# Altium integrated library Linear Technology Power Management System Supervisor, Monitor and Control.IntLib: 1611 symbols (part 18 of 100)
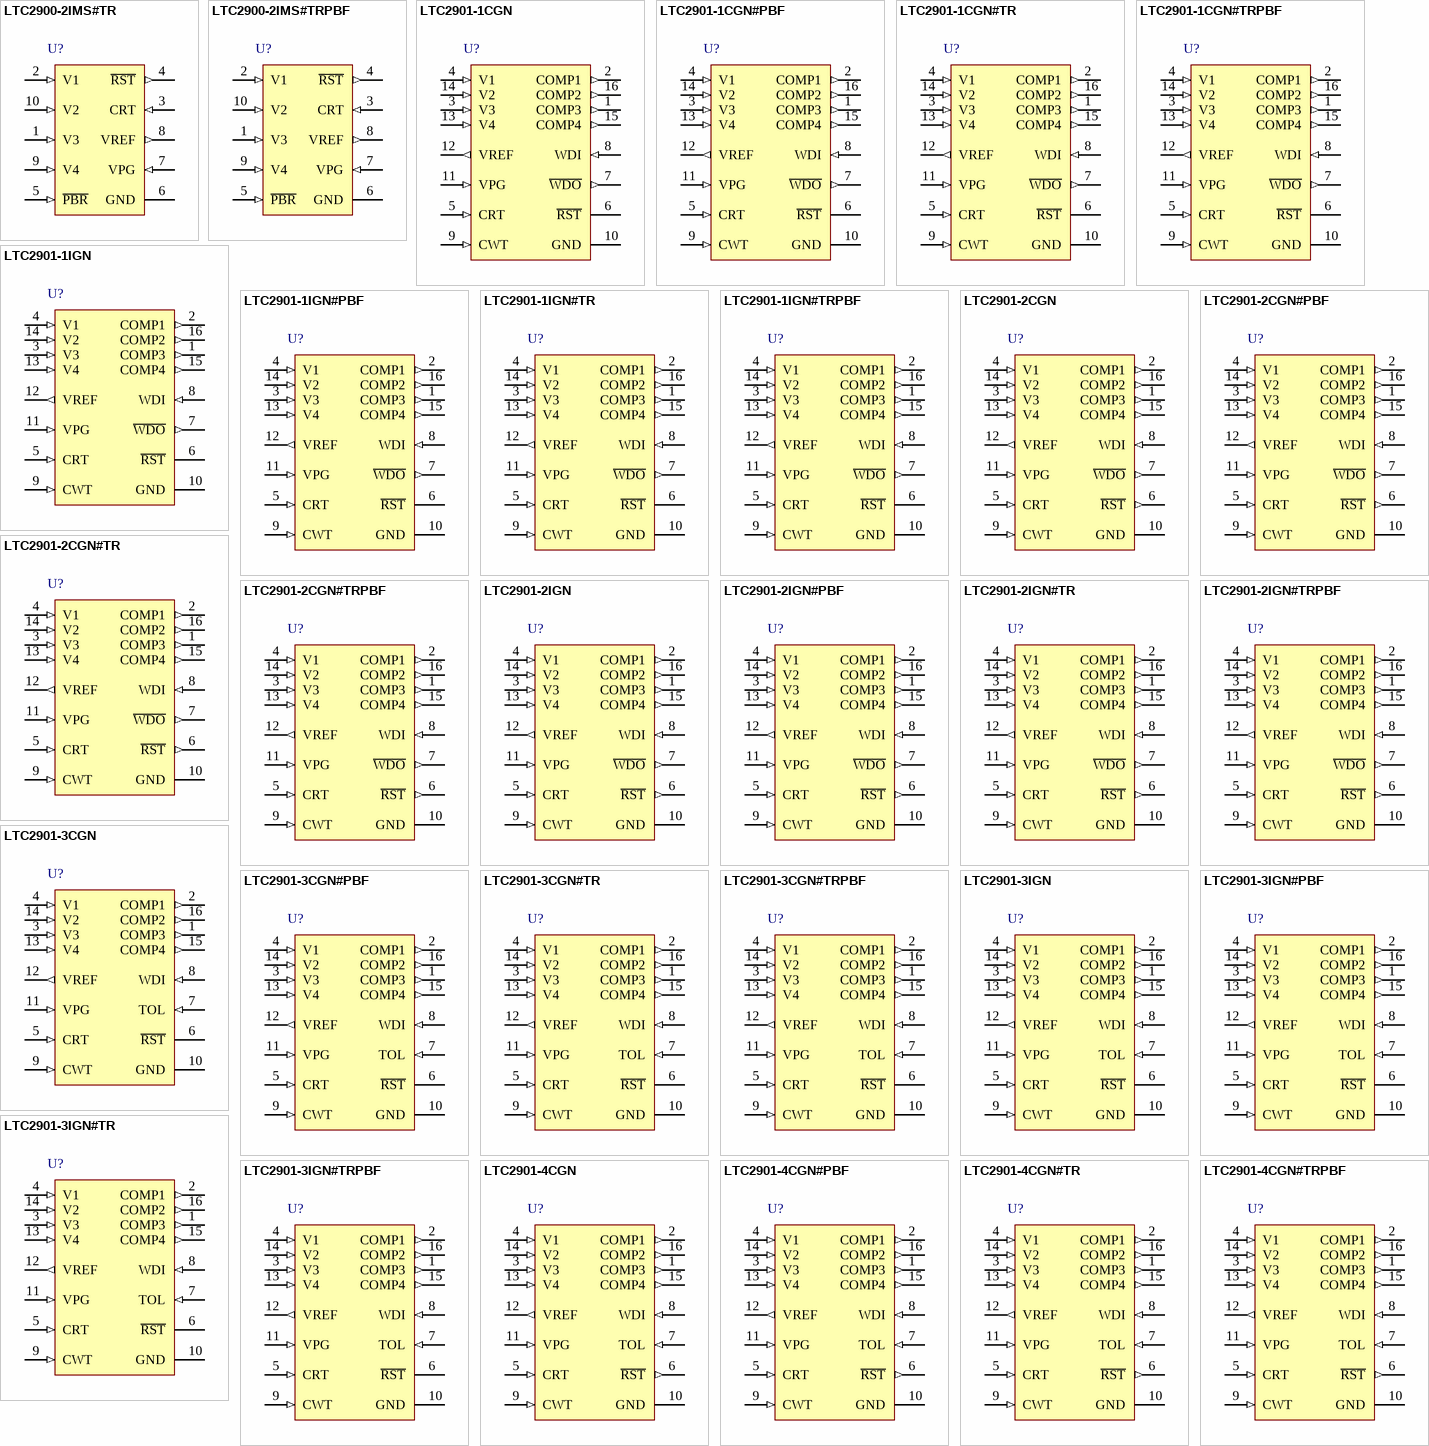
[diagram p62: symbols LTC2900-2IMS#TR to LTC2901-4CGN#TRPBF]

## LTC2901-2CGN#PBF
designator U?
Programmable Quad Supply Monitor with Adjustable Reset and Watchdog Timers, 16-pin SOP (GN-16), 0 to 70 degC, Pb-Free; Manufacturer: Linear Technology; PartNumber: LTC2901-2CGN#PBF; Number of Supplies(#): 4; DatasheetVersion: Rev. B; PackageVersion: Rev. B, 03/2012; PackageReference: GN-16; PackageDescription: 16-Pin Plastic SSOP, Body 4.9 x 3.9 mm, Pitch 0.635 mm; Supplier 1: Digi-Key; Supplier Part Number 1: LTC2901-2CGN#PBF-ND; RoHS: TRUE; Mounting Technology: Surface Mount; ComponentLink1Description: Manufacturer URL; ComponentLink1URL: http://www.linear.com/; ComponentLink2Description: Datasheet; ComponentLink2URL: http://cds.linear.com/docs/en/datasheet/2901fb.pdf; ComponentLink3Description: Package Specification; ComponentLink3URL: http://cds.linear.com/docs/en/packaging/05081641_B_GN16.pdf
footprint LT-GN-16_N (SOP, 16-Leads, Body 5x4mm, Pitch 0.635mm, IPC Medium Density)
footprint LT-GN-16_L (SOP, 16-Leads, Body 5x4mm, Pitch 0.635mm, IPC High Density)
footprint LT-GN-16_M (SOP, 16-Leads, Body 5x4mm, Pitch 0.635mm, IPC Low Density)
pins: 1 COMP3 (out) "Comparator Output 3. Nondelayed, active high logic output with weak pull-up to V2. Pulls high when V3 is above reset threshold. May be pulled greater than V2 using external pull-up.", 2 COMP1 (out) "Comparator Output 1. Nondelayed, active high logic output with weak pull-up to V2. Pulls high when V1 is above reset threshold. May be pulled greater than V2 using external pull-up.", 3 V3 (in) "Voltage Input 3. Select from 2.5V, 1.8V, 1.5V or ADJ. See Table 1 for details.", 4 V1 (in) "Voltage Input 1. Select from 5V or 3.3V. See Table 1 for details. The greater of (V1, V2) is also VCC for the device. Bypass this pin to ground with a 0.1uF (or greater) capacitor.", 5 CRT (in) "Reset Delay Time Programming Pin. Attach an external capacitor (CRT) to GND to set a reset delay time of 4.6ms/nF. Leaving the pin open generates a minimum delay of approximately 50us. A 47nF capacitor will generate a 216ms (See Datasheet)", 6 ~{RST} (out) "Reset Logic Output. Active low with weak pull-up to V2 (LTC2901-1/LTC2901-3) or active pull-up to V2 (LTC2901-2/LTC2901-4). Pulls low when any voltage input is below the reset threshold and held low for the programmed delay (See Datasheet)", 7 ~{WDO} (out) "LTC2901-1/LTC2901-2 Watchdog Output. Active low logic output with weak pull-up to V2. May be pulled greater than V2 using external pull-up. The watchdog output pulls low if the watchdog timer is allowed to time out and (See Datasheet)", 8 WDI (in) "Watchdog Input. A logic input whose rising or falling edge must occur on this pin (while R\S\T\ is high) within the selected watchdog time-out period, prohibiting a high-to-low transition on the W\D\O\ pin (LTC2901-1/ (See Datasheet)", 9 CWT (in) "Watchdog Time-Out Programming Pin. Attach a capacitor (CWT) between CWT and GND to set a watchdog time-out period of 20ms/nF. Leaving the pin open generates a minimum time-out of approximately 200us. A 47nF capacitor will (See Datasheet)", 10 GND (power) "Ground.", 11 VPG (in) "Voltage Threshold Combination Select Input. Connect to an external 1% resistive divider between VREF and GND to select 1 of 16 combinations of preset and/ or +/-adjustable voltage thresholds (see Table 1). Do not add (See Datasheet)", 12 VREF (out) "Buffered Reference Voltage. A 1.210V nominal reference used for programming voltage (VPG) and for the offset of negative adjustable applications. The buffered reference can source and sink up to 1mA. The reference can drive (See Datasheet)", 13 V4 (in) "Voltage Input 4. Select from 1.8V, 1.5V, ADJ or - ADJ. See Table 1 for details.", 14 V2 (in) "Voltage Input 2. Select from 3.3V, 3V or 2.5V. See Table 1 for details. The greater of (V1, V2) is also VCC for device. Bypass this pin to ground with a 0.1uF (or greater) capacitor. All logic outputs (COMP1, COMP2, COMP3, (See Datasheet)", 15 COMP4 (out) "Comparator Output 4. Nondelayed, active high logic output with weak pull-up to V2. Pulls high when V4 is above reset threshold. May be pulled greater than V2 using external pull-up.", 16 COMP2 (out) "Comparator Output 2. Nondelayed, active high logic output with weak pull-up to V2. Pulls high when V2 is above reset threshold. May be pulled greater than V2 using external pull-up."

## LTC2901-2CGN#TR
designator U?
Programmable Quad Supply Monitor with Adjustable Reset and Watchdog Timers, 16-pin SOP (GN-16), 0 to 70 degC, Tape and Reel; Manufacturer: Linear Technology; PartNumber: LTC2901-2CGN#TR; Number of Supplies(#): 4; DatasheetVersion: Rev. B; PackageVersion: Rev. B, 03/2012; PackageReference: GN-16; PackageDescription: 16-Pin Plastic SSOP, Body 4.9 x 3.9 mm, Pitch 0.635 mm; Supplier 1: Digi-Key; Supplier Part Number 1: LTC2901-2CGN#TR-ND; Packing: Tape and Reel; RoHS: FALSE; Mounting Technology: Surface Mount; ComponentLink1Description: Manufacturer URL; ComponentLink1URL: http://www.linear.com/; ComponentLink2Description: Datasheet; ComponentLink2URL: http://cds.linear.com/docs/en/datasheet/2901fb.pdf; ComponentLink3Description: Package Specification; ComponentLink3URL: http://cds.linear.com/docs/en/packaging/05081641_B_GN16.pdf
footprint LT-GN-16_N (SOP, 16-Leads, Body 5x4mm, Pitch 0.635mm, IPC Medium Density)
footprint LT-GN-16_L (SOP, 16-Leads, Body 5x4mm, Pitch 0.635mm, IPC High Density)
footprint LT-GN-16_M (SOP, 16-Leads, Body 5x4mm, Pitch 0.635mm, IPC Low Density)
pins: 1 COMP3 (out) "Comparator Output 3. Nondelayed, active high logic output with weak pull-up to V2. Pulls high when V3 is above reset threshold. May be pulled greater than V2 using external pull-up.", 2 COMP1 (out) "Comparator Output 1. Nondelayed, active high logic output with weak pull-up to V2. Pulls high when V1 is above reset threshold. May be pulled greater than V2 using external pull-up.", 3 V3 (in) "Voltage Input 3. Select from 2.5V, 1.8V, 1.5V or ADJ. See Table 1 for details.", 4 V1 (in) "Voltage Input 1. Select from 5V or 3.3V. See Table 1 for details. The greater of (V1, V2) is also VCC for the device. Bypass this pin to ground with a 0.1uF (or greater) capacitor.", 5 CRT (in) "Reset Delay Time Programming Pin. Attach an external capacitor (CRT) to GND to set a reset delay time of 4.6ms/nF. Leaving the pin open generates a minimum delay of approximately 50us. A 47nF capacitor will generate a 216ms (See Datasheet)", 6 ~{RST} (out) "Reset Logic Output. Active low with weak pull-up to V2 (LTC2901-1/LTC2901-3) or active pull-up to V2 (LTC2901-2/LTC2901-4). Pulls low when any voltage input is below the reset threshold and held low for the programmed delay (See Datasheet)", 7 ~{WDO} (out) "LTC2901-1/LTC2901-2 Watchdog Output. Active low logic output with weak pull-up to V2. May be pulled greater than V2 using external pull-up. The watchdog output pulls low if the watchdog timer is allowed to time out and (See Datasheet)", 8 WDI (in) "Watchdog Input. A logic input whose rising or falling edge must occur on this pin (while R\S\T\ is high) within the selected watchdog time-out period, prohibiting a high-to-low transition on the W\D\O\ pin (LTC2901-1/ (See Datasheet)", 9 CWT (in) "Watchdog Time-Out Programming Pin. Attach a capacitor (CWT) between CWT and GND to set a watchdog time-out period of 20ms/nF. Leaving the pin open generates a minimum time-out of approximately 200us. A 47nF capacitor will (See Datasheet)", 10 GND (power) "Ground.", 11 VPG (in) "Voltage Threshold Combination Select Input. Connect to an external 1% resistive divider between VREF and GND to select 1 of 16 combinations of preset and/ or +/-adjustable voltage thresholds (see Table 1). Do not add (See Datasheet)", 12 VREF (out) "Buffered Reference Voltage. A 1.210V nominal reference used for programming voltage (VPG) and for the offset of negative adjustable applications. The buffered reference can source and sink up to 1mA. The reference can drive (See Datasheet)", 13 V4 (in) "Voltage Input 4. Select from 1.8V, 1.5V, ADJ or - ADJ. See Table 1 for details.", 14 V2 (in) "Voltage Input 2. Select from 3.3V, 3V or 2.5V. See Table 1 for details. The greater of (V1, V2) is also VCC for device. Bypass this pin to ground with a 0.1uF (or greater) capacitor. All logic outputs (COMP1, COMP2, COMP3, (See Datasheet)", 15 COMP4 (out) "Comparator Output 4. Nondelayed, active high logic output with weak pull-up to V2. Pulls high when V4 is above reset threshold. May be pulled greater than V2 using external pull-up.", 16 COMP2 (out) "Comparator Output 2. Nondelayed, active high logic output with weak pull-up to V2. Pulls high when V2 is above reset threshold. May be pulled greater than V2 using external pull-up."

## LTC2901-2CGN#TRPBF
designator U?
Programmable Quad Supply Monitor with Adjustable Reset and Watchdog Timers, 16-pin SOP (GN-16), 0 to 70 degC, Pb-Free, Tape and Reel; Manufacturer: Linear Technology; PartNumber: LTC2901-2CGN#TRPBF; Number of Supplies(#): 4; DatasheetVersion: Rev. B; PackageVersion: Rev. B, 03/2012; PackageReference: GN-16; PackageDescription: 16-Pin Plastic SSOP, Body 4.9 x 3.9 mm, Pitch 0.635 mm; Supplier 1: Digi-Key; Supplier Part Number 1: LTC2901-2CGN#TRPBF-ND; Packing: Tape and Reel; RoHS: TRUE; Mounting Technology: Surface Mount; ComponentLink1Description: Manufacturer URL; ComponentLink1URL: http://www.linear.com/; ComponentLink2Description: Datasheet; ComponentLink2URL: http://cds.linear.com/docs/en/datasheet/2901fb.pdf; ComponentLink3Description: Package Specification; ComponentLink3URL: http://cds.linear.com/docs/en/packaging/05081641_B_GN16.pdf
footprint LT-GN-16_N (SOP, 16-Leads, Body 5x4mm, Pitch 0.635mm, IPC Medium Density)
footprint LT-GN-16_L (SOP, 16-Leads, Body 5x4mm, Pitch 0.635mm, IPC High Density)
footprint LT-GN-16_M (SOP, 16-Leads, Body 5x4mm, Pitch 0.635mm, IPC Low Density)
pins: 1 COMP3 (out) "Comparator Output 3. Nondelayed, active high logic output with weak pull-up to V2. Pulls high when V3 is above reset threshold. May be pulled greater than V2 using external pull-up.", 2 COMP1 (out) "Comparator Output 1. Nondelayed, active high logic output with weak pull-up to V2. Pulls high when V1 is above reset threshold. May be pulled greater than V2 using external pull-up.", 3 V3 (in) "Voltage Input 3. Select from 2.5V, 1.8V, 1.5V or ADJ. See Table 1 for details.", 4 V1 (in) "Voltage Input 1. Select from 5V or 3.3V. See Table 1 for details. The greater of (V1, V2) is also VCC for the device. Bypass this pin to ground with a 0.1uF (or greater) capacitor.", 5 CRT (in) "Reset Delay Time Programming Pin. Attach an external capacitor (CRT) to GND to set a reset delay time of 4.6ms/nF. Leaving the pin open generates a minimum delay of approximately 50us. A 47nF capacitor will generate a 216ms (See Datasheet)", 6 ~{RST} (out) "Reset Logic Output. Active low with weak pull-up to V2 (LTC2901-1/LTC2901-3) or active pull-up to V2 (LTC2901-2/LTC2901-4). Pulls low when any voltage input is below the reset threshold and held low for the programmed delay (See Datasheet)", 7 ~{WDO} (out) "LTC2901-1/LTC2901-2 Watchdog Output. Active low logic output with weak pull-up to V2. May be pulled greater than V2 using external pull-up. The watchdog output pulls low if the watchdog timer is allowed to time out and (See Datasheet)", 8 WDI (in) "Watchdog Input. A logic input whose rising or falling edge must occur on this pin (while R\S\T\ is high) within the selected watchdog time-out period, prohibiting a high-to-low transition on the W\D\O\ pin (LTC2901-1/ (See Datasheet)", 9 CWT (in) "Watchdog Time-Out Programming Pin. Attach a capacitor (CWT) between CWT and GND to set a watchdog time-out period of 20ms/nF. Leaving the pin open generates a minimum time-out of approximately 200us. A 47nF capacitor will (See Datasheet)", 10 GND (power) "Ground.", 11 VPG (in) "Voltage Threshold Combination Select Input. Connect to an external 1% resistive divider between VREF and GND to select 1 of 16 combinations of preset and/ or +/-adjustable voltage thresholds (see Table 1). Do not add (See Datasheet)", 12 VREF (out) "Buffered Reference Voltage. A 1.210V nominal reference used for programming voltage (VPG) and for the offset of negative adjustable applications. The buffered reference can source and sink up to 1mA. The reference can drive (See Datasheet)", 13 V4 (in) "Voltage Input 4. Select from 1.8V, 1.5V, ADJ or - ADJ. See Table 1 for details.", 14 V2 (in) "Voltage Input 2. Select from 3.3V, 3V or 2.5V. See Table 1 for details. The greater of (V1, V2) is also VCC for device. Bypass this pin to ground with a 0.1uF (or greater) capacitor. All logic outputs (COMP1, COMP2, COMP3, (See Datasheet)", 15 COMP4 (out) "Comparator Output 4. Nondelayed, active high logic output with weak pull-up to V2. Pulls high when V4 is above reset threshold. May be pulled greater than V2 using external pull-up.", 16 COMP2 (out) "Comparator Output 2. Nondelayed, active high logic output with weak pull-up to V2. Pulls high when V2 is above reset threshold. May be pulled greater than V2 using external pull-up."

## LTC2901-2IGN
designator U?
Programmable Quad Supply Monitor with Adjustable Reset and Watchdog Timers, 16-pin SOP (GN-16), -40 to 85 degC; Manufacturer: Linear Technology; PartNumber: LTC2901-2IGN; Number of Supplies(#): 4; DatasheetVersion: Rev. B; PackageVersion: Rev. B, 03/2012; PackageReference: GN-16; PackageDescription: 16-Pin Plastic SSOP, Body 4.9 x 3.9 mm, Pitch 0.635 mm; Supplier 1: Digi-Key; Supplier Part Number 1: LTC2901-2IGN-ND; RoHS: FALSE; Mounting Technology: Surface Mount; ComponentLink1Description: Manufacturer URL; ComponentLink1URL: http://www.linear.com/; ComponentLink2Description: Datasheet; ComponentLink2URL: http://cds.linear.com/docs/en/datasheet/2901fb.pdf; ComponentLink3Description: Package Specification; ComponentLink3URL: http://cds.linear.com/docs/en/packaging/05081641_B_GN16.pdf
footprint LT-GN-16_N (SOP, 16-Leads, Body 5x4mm, Pitch 0.635mm, IPC Medium Density)
footprint LT-GN-16_L (SOP, 16-Leads, Body 5x4mm, Pitch 0.635mm, IPC High Density)
footprint LT-GN-16_M (SOP, 16-Leads, Body 5x4mm, Pitch 0.635mm, IPC Low Density)
pins: 1 COMP3 (out) "Comparator Output 3. Nondelayed, active high logic output with weak pull-up to V2. Pulls high when V3 is above reset threshold. May be pulled greater than V2 using external pull-up.", 2 COMP1 (out) "Comparator Output 1. Nondelayed, active high logic output with weak pull-up to V2. Pulls high when V1 is above reset threshold. May be pulled greater than V2 using external pull-up.", 3 V3 (in) "Voltage Input 3. Select from 2.5V, 1.8V, 1.5V or ADJ. See Table 1 for details.", 4 V1 (in) "Voltage Input 1. Select from 5V or 3.3V. See Table 1 for details. The greater of (V1, V2) is also VCC for the device. Bypass this pin to ground with a 0.1uF (or greater) capacitor.", 5 CRT (in) "Reset Delay Time Programming Pin. Attach an external capacitor (CRT) to GND to set a reset delay time of 4.6ms/nF. Leaving the pin open generates a minimum delay of approximately 50us. A 47nF capacitor will generate a 216ms (See Datasheet)", 6 ~{RST} (out) "Reset Logic Output. Active low with weak pull-up to V2 (LTC2901-1/LTC2901-3) or active pull-up to V2 (LTC2901-2/LTC2901-4). Pulls low when any voltage input is below the reset threshold and held low for the programmed delay (See Datasheet)", 7 ~{WDO} (out) "LTC2901-1/LTC2901-2 Watchdog Output. Active low logic output with weak pull-up to V2. May be pulled greater than V2 using external pull-up. The watchdog output pulls low if the watchdog timer is allowed to time out and (See Datasheet)", 8 WDI (in) "Watchdog Input. A logic input whose rising or falling edge must occur on this pin (while R\S\T\ is high) within the selected watchdog time-out period, prohibiting a high-to-low transition on the W\D\O\ pin (LTC2901-1/ (See Datasheet)", 9 CWT (in) "Watchdog Time-Out Programming Pin. Attach a capacitor (CWT) between CWT and GND to set a watchdog time-out period of 20ms/nF. Leaving the pin open generates a minimum time-out of approximately 200us. A 47nF capacitor will (See Datasheet)", 10 GND (power) "Ground.", 11 VPG (in) "Voltage Threshold Combination Select Input. Connect to an external 1% resistive divider between VREF and GND to select 1 of 16 combinations of preset and/ or +/-adjustable voltage thresholds (see Table 1). Do not add (See Datasheet)", 12 VREF (out) "Buffered Reference Voltage. A 1.210V nominal reference used for programming voltage (VPG) and for the offset of negative adjustable applications. The buffered reference can source and sink up to 1mA. The reference can drive (See Datasheet)", 13 V4 (in) "Voltage Input 4. Select from 1.8V, 1.5V, ADJ or - ADJ. See Table 1 for details.", 14 V2 (in) "Voltage Input 2. Select from 3.3V, 3V or 2.5V. See Table 1 for details. The greater of (V1, V2) is also VCC for device. Bypass this pin to ground with a 0.1uF (or greater) capacitor. All logic outputs (COMP1, COMP2, COMP3, (See Datasheet)", 15 COMP4 (out) "Comparator Output 4. Nondelayed, active high logic output with weak pull-up to V2. Pulls high when V4 is above reset threshold. May be pulled greater than V2 using external pull-up.", 16 COMP2 (out) "Comparator Output 2. Nondelayed, active high logic output with weak pull-up to V2. Pulls high when V2 is above reset threshold. May be pulled greater than V2 using external pull-up."

## LTC2901-2IGN#PBF
designator U?
Programmable Quad Supply Monitor with Adjustable Reset and Watchdog Timers, 16-pin SOP (GN-16), -40 to 85 degC, Pb-Free; Manufacturer: Linear Technology; PartNumber: LTC2901-2IGN#PBF; Number of Supplies(#): 4; DatasheetVersion: Rev. B; PackageVersion: Rev. B, 03/2012; PackageReference: GN-16; PackageDescription: 16-Pin Plastic SSOP, Body 4.9 x 3.9 mm, Pitch 0.635 mm; Supplier 1: Digi-Key; Supplier Part Number 1: LTC2901-2IGN#PBF-ND; Supplier 2: Newark; Supplier Part Number 2: 56M6584; RoHS: TRUE; Mounting Technology: Surface Mount; ComponentLink1Description: Manufacturer URL; ComponentLink1URL: http://www.linear.com/; ComponentLink2Description: Datasheet; ComponentLink2URL: http://cds.linear.com/docs/en/datasheet/2901fb.pdf; ComponentLink3Description: Package Specification; ComponentLink3URL: http://cds.linear.com/docs/en/packaging/05081641_B_GN16.pdf
footprint LT-GN-16_N (SOP, 16-Leads, Body 5x4mm, Pitch 0.635mm, IPC Medium Density)
footprint LT-GN-16_L (SOP, 16-Leads, Body 5x4mm, Pitch 0.635mm, IPC High Density)
footprint LT-GN-16_M (SOP, 16-Leads, Body 5x4mm, Pitch 0.635mm, IPC Low Density)
pins: 1 COMP3 (out) "Comparator Output 3. Nondelayed, active high logic output with weak pull-up to V2. Pulls high when V3 is above reset threshold. May be pulled greater than V2 using external pull-up.", 2 COMP1 (out) "Comparator Output 1. Nondelayed, active high logic output with weak pull-up to V2. Pulls high when V1 is above reset threshold. May be pulled greater than V2 using external pull-up.", 3 V3 (in) "Voltage Input 3. Select from 2.5V, 1.8V, 1.5V or ADJ. See Table 1 for details.", 4 V1 (in) "Voltage Input 1. Select from 5V or 3.3V. See Table 1 for details. The greater of (V1, V2) is also VCC for the device. Bypass this pin to ground with a 0.1uF (or greater) capacitor.", 5 CRT (in) "Reset Delay Time Programming Pin. Attach an external capacitor (CRT) to GND to set a reset delay time of 4.6ms/nF. Leaving the pin open generates a minimum delay of approximately 50us. A 47nF capacitor will generate a 216ms (See Datasheet)", 6 ~{RST} (out) "Reset Logic Output. Active low with weak pull-up to V2 (LTC2901-1/LTC2901-3) or active pull-up to V2 (LTC2901-2/LTC2901-4). Pulls low when any voltage input is below the reset threshold and held low for the programmed delay (See Datasheet)", 7 ~{WDO} (out) "LTC2901-1/LTC2901-2 Watchdog Output. Active low logic output with weak pull-up to V2. May be pulled greater than V2 using external pull-up. The watchdog output pulls low if the watchdog timer is allowed to time out and (See Datasheet)", 8 WDI (in) "Watchdog Input. A logic input whose rising or falling edge must occur on this pin (while R\S\T\ is high) within the selected watchdog time-out period, prohibiting a high-to-low transition on the W\D\O\ pin (LTC2901-1/ (See Datasheet)", 9 CWT (in) "Watchdog Time-Out Programming Pin. Attach a capacitor (CWT) between CWT and GND to set a watchdog time-out period of 20ms/nF. Leaving the pin open generates a minimum time-out of approximately 200us. A 47nF capacitor will (See Datasheet)", 10 GND (power) "Ground.", 11 VPG (in) "Voltage Threshold Combination Select Input. Connect to an external 1% resistive divider between VREF and GND to select 1 of 16 combinations of preset and/ or +/-adjustable voltage thresholds (see Table 1). Do not add (See Datasheet)", 12 VREF (out) "Buffered Reference Voltage. A 1.210V nominal reference used for programming voltage (VPG) and for the offset of negative adjustable applications. The buffered reference can source and sink up to 1mA. The reference can drive (See Datasheet)", 13 V4 (in) "Voltage Input 4. Select from 1.8V, 1.5V, ADJ or - ADJ. See Table 1 for details.", 14 V2 (in) "Voltage Input 2. Select from 3.3V, 3V or 2.5V. See Table 1 for details. The greater of (V1, V2) is also VCC for device. Bypass this pin to ground with a 0.1uF (or greater) capacitor. All logic outputs (COMP1, COMP2, COMP3, (See Datasheet)", 15 COMP4 (out) "Comparator Output 4. Nondelayed, active high logic output with weak pull-up to V2. Pulls high when V4 is above reset threshold. May be pulled greater than V2 using external pull-up.", 16 COMP2 (out) "Comparator Output 2. Nondelayed, active high logic output with weak pull-up to V2. Pulls high when V2 is above reset threshold. May be pulled greater than V2 using external pull-up."

## LTC2901-2IGN#TR
designator U?
Programmable Quad Supply Monitor with Adjustable Reset and Watchdog Timers, 16-pin SOP (GN-16), -40 to 85 degC, Tape and Reel; Manufacturer: Linear Technology; PartNumber: LTC2901-2IGN#TR; Number of Supplies(#): 4; DatasheetVersion: Rev. B; PackageVersion: Rev. B, 03/2012; PackageReference: GN-16; PackageDescription: 16-Pin Plastic SSOP, Body 4.9 x 3.9 mm, Pitch 0.635 mm; Supplier 1: Digi-Key; Supplier Part Number 1: LTC2901-2IGN#TR-ND; Packing: Tape and Reel; RoHS: FALSE; Mounting Technology: Surface Mount; ComponentLink1Description: Manufacturer URL; ComponentLink1URL: http://www.linear.com/; ComponentLink2Description: Datasheet; ComponentLink2URL: http://cds.linear.com/docs/en/datasheet/2901fb.pdf; ComponentLink3Description: Package Specification; ComponentLink3URL: http://cds.linear.com/docs/en/packaging/05081641_B_GN16.pdf
footprint LT-GN-16_N (SOP, 16-Leads, Body 5x4mm, Pitch 0.635mm, IPC Medium Density)
footprint LT-GN-16_L (SOP, 16-Leads, Body 5x4mm, Pitch 0.635mm, IPC High Density)
footprint LT-GN-16_M (SOP, 16-Leads, Body 5x4mm, Pitch 0.635mm, IPC Low Density)
pins: 1 COMP3 (out) "Comparator Output 3. Nondelayed, active high logic output with weak pull-up to V2. Pulls high when V3 is above reset threshold. May be pulled greater than V2 using external pull-up.", 2 COMP1 (out) "Comparator Output 1. Nondelayed, active high logic output with weak pull-up to V2. Pulls high when V1 is above reset threshold. May be pulled greater than V2 using external pull-up.", 3 V3 (in) "Voltage Input 3. Select from 2.5V, 1.8V, 1.5V or ADJ. See Table 1 for details.", 4 V1 (in) "Voltage Input 1. Select from 5V or 3.3V. See Table 1 for details. The greater of (V1, V2) is also VCC for the device. Bypass this pin to ground with a 0.1uF (or greater) capacitor.", 5 CRT (in) "Reset Delay Time Programming Pin. Attach an external capacitor (CRT) to GND to set a reset delay time of 4.6ms/nF. Leaving the pin open generates a minimum delay of approximately 50us. A 47nF capacitor will generate a 216ms (See Datasheet)", 6 ~{RST} (out) "Reset Logic Output. Active low with weak pull-up to V2 (LTC2901-1/LTC2901-3) or active pull-up to V2 (LTC2901-2/LTC2901-4). Pulls low when any voltage input is below the reset threshold and held low for the programmed delay (See Datasheet)", 7 ~{WDO} (out) "LTC2901-1/LTC2901-2 Watchdog Output. Active low logic output with weak pull-up to V2. May be pulled greater than V2 using external pull-up. The watchdog output pulls low if the watchdog timer is allowed to time out and (See Datasheet)", 8 WDI (in) "Watchdog Input. A logic input whose rising or falling edge must occur on this pin (while R\S\T\ is high) within the selected watchdog time-out period, prohibiting a high-to-low transition on the W\D\O\ pin (LTC2901-1/ (See Datasheet)", 9 CWT (in) "Watchdog Time-Out Programming Pin. Attach a capacitor (CWT) between CWT and GND to set a watchdog time-out period of 20ms/nF. Leaving the pin open generates a minimum time-out of approximately 200us. A 47nF capacitor will (See Datasheet)", 10 GND (power) "Ground.", 11 VPG (in) "Voltage Threshold Combination Select Input. Connect to an external 1% resistive divider between VREF and GND to select 1 of 16 combinations of preset and/ or +/-adjustable voltage thresholds (see Table 1). Do not add (See Datasheet)", 12 VREF (out) "Buffered Reference Voltage. A 1.210V nominal reference used for programming voltage (VPG) and for the offset of negative adjustable applications. The buffered reference can source and sink up to 1mA. The reference can drive (See Datasheet)", 13 V4 (in) "Voltage Input 4. Select from 1.8V, 1.5V, ADJ or - ADJ. See Table 1 for details.", 14 V2 (in) "Voltage Input 2. Select from 3.3V, 3V or 2.5V. See Table 1 for details. The greater of (V1, V2) is also VCC for device. Bypass this pin to ground with a 0.1uF (or greater) capacitor. All logic outputs (COMP1, COMP2, COMP3, (See Datasheet)", 15 COMP4 (out) "Comparator Output 4. Nondelayed, active high logic output with weak pull-up to V2. Pulls high when V4 is above reset threshold. May be pulled greater than V2 using external pull-up.", 16 COMP2 (out) "Comparator Output 2. Nondelayed, active high logic output with weak pull-up to V2. Pulls high when V2 is above reset threshold. May be pulled greater than V2 using external pull-up."

## LTC2901-2IGN#TRPBF
designator U?
Programmable Quad Supply Monitor with Adjustable Reset and Watchdog Timers, 16-pin SOP (GN-16), -40 to 85 degC, Pb-Free, Tape and Reel; Manufacturer: Linear Technology; PartNumber: LTC2901-2IGN#TRPBF; Number of Supplies(#): 4; DatasheetVersion: Rev. B; PackageVersion: Rev. B, 03/2012; PackageReference: GN-16; PackageDescription: 16-Pin Plastic SSOP, Body 4.9 x 3.9 mm, Pitch 0.635 mm; Supplier 1: Digi-Key; Supplier Part Number 1: LTC2901-2IGN#TRPBF-ND; Packing: Tape and Reel; RoHS: TRUE; Mounting Technology: Surface Mount; ComponentLink1Description: Manufacturer URL; ComponentLink1URL: http://www.linear.com/; ComponentLink2Description: Datasheet; ComponentLink2URL: http://cds.linear.com/docs/en/datasheet/2901fb.pdf; ComponentLink3Description: Package Specification; ComponentLink3URL: http://cds.linear.com/docs/en/packaging/05081641_B_GN16.pdf
footprint LT-GN-16_N (SOP, 16-Leads, Body 5x4mm, Pitch 0.635mm, IPC Medium Density)
footprint LT-GN-16_L (SOP, 16-Leads, Body 5x4mm, Pitch 0.635mm, IPC High Density)
footprint LT-GN-16_M (SOP, 16-Leads, Body 5x4mm, Pitch 0.635mm, IPC Low Density)
pins: 1 COMP3 (out) "Comparator Output 3. Nondelayed, active high logic output with weak pull-up to V2. Pulls high when V3 is above reset threshold. May be pulled greater than V2 using external pull-up.", 2 COMP1 (out) "Comparator Output 1. Nondelayed, active high logic output with weak pull-up to V2. Pulls high when V1 is above reset threshold. May be pulled greater than V2 using external pull-up.", 3 V3 (in) "Voltage Input 3. Select from 2.5V, 1.8V, 1.5V or ADJ. See Table 1 for details.", 4 V1 (in) "Voltage Input 1. Select from 5V or 3.3V. See Table 1 for details. The greater of (V1, V2) is also VCC for the device. Bypass this pin to ground with a 0.1uF (or greater) capacitor.", 5 CRT (in) "Reset Delay Time Programming Pin. Attach an external capacitor (CRT) to GND to set a reset delay time of 4.6ms/nF. Leaving the pin open generates a minimum delay of approximately 50us. A 47nF capacitor will generate a 216ms (See Datasheet)", 6 ~{RST} (out) "Reset Logic Output. Active low with weak pull-up to V2 (LTC2901-1/LTC2901-3) or active pull-up to V2 (LTC2901-2/LTC2901-4). Pulls low when any voltage input is below the reset threshold and held low for the programmed delay (See Datasheet)", 7 ~{WDO} (out) "LTC2901-1/LTC2901-2 Watchdog Output. Active low logic output with weak pull-up to V2. May be pulled greater than V2 using external pull-up. The watchdog output pulls low if the watchdog timer is allowed to time out and (See Datasheet)", 8 WDI (in) "Watchdog Input. A logic input whose rising or falling edge must occur on this pin (while R\S\T\ is high) within the selected watchdog time-out period, prohibiting a high-to-low transition on the W\D\O\ pin (LTC2901-1/ (See Datasheet)", 9 CWT (in) "Watchdog Time-Out Programming Pin. Attach a capacitor (CWT) between CWT and GND to set a watchdog time-out period of 20ms/nF. Leaving the pin open generates a minimum time-out of approximately 200us. A 47nF capacitor will (See Datasheet)", 10 GND (power) "Ground.", 11 VPG (in) "Voltage Threshold Combination Select Input. Connect to an external 1% resistive divider between VREF and GND to select 1 of 16 combinations of preset and/ or +/-adjustable voltage thresholds (see Table 1). Do not add (See Datasheet)", 12 VREF (out) "Buffered Reference Voltage. A 1.210V nominal reference used for programming voltage (VPG) and for the offset of negative adjustable applications. The buffered reference can source and sink up to 1mA. The reference can drive (See Datasheet)", 13 V4 (in) "Voltage Input 4. Select from 1.8V, 1.5V, ADJ or - ADJ. See Table 1 for details.", 14 V2 (in) "Voltage Input 2. Select from 3.3V, 3V or 2.5V. See Table 1 for details. The greater of (V1, V2) is also VCC for device. Bypass this pin to ground with a 0.1uF (or greater) capacitor. All logic outputs (COMP1, COMP2, COMP3, (See Datasheet)", 15 COMP4 (out) "Comparator Output 4. Nondelayed, active high logic output with weak pull-up to V2. Pulls high when V4 is above reset threshold. May be pulled greater than V2 using external pull-up.", 16 COMP2 (out) "Comparator Output 2. Nondelayed, active high logic output with weak pull-up to V2. Pulls high when V2 is above reset threshold. May be pulled greater than V2 using external pull-up."

## LTC2901-3CGN
designator U?
Programmable Quad Supply Monitor with Adjustable Reset and Watchdog Timers, 16-pin SOP (GN-16), 0 to 70 degC; Manufacturer: Linear Technology; PartNumber: LTC2901-3CGN; Number of Supplies(#): 4; DatasheetVersion: Rev. B; PackageVersion: Rev. B, 03/2012; PackageReference: GN-16; PackageDescription: 16-Pin Plastic SSOP, Body 4.9 x 3.9 mm, Pitch 0.635 mm; Supplier 1: Digi-Key; Supplier Part Number 1: LTC2901-3CGN-ND; RoHS: FALSE; Mounting Technology: Surface Mount; ComponentLink1Description: Manufacturer URL; ComponentLink1URL: http://www.linear.com/; ComponentLink2Description: Datasheet; ComponentLink2URL: http://cds.linear.com/docs/en/datasheet/2901fb.pdf; ComponentLink3Description: Package Specification; ComponentLink3URL: http://cds.linear.com/docs/en/packaging/05081641_B_GN16.pdf
footprint LT-GN-16_N (SOP, 16-Leads, Body 5x4mm, Pitch 0.635mm, IPC Medium Density)
footprint LT-GN-16_L (SOP, 16-Leads, Body 5x4mm, Pitch 0.635mm, IPC High Density)
footprint LT-GN-16_M (SOP, 16-Leads, Body 5x4mm, Pitch 0.635mm, IPC Low Density)
pins: 1 COMP3 (out) "Comparator Output 3. Nondelayed, active high logic output with weak pull-up to V2. Pulls high when V3 is above reset threshold. May be pulled greater than V2 using external pull-up.", 2 COMP1 (out) "Comparator Output 1. Nondelayed, active high logic output with weak pull-up to V2. Pulls high when V1 is above reset threshold. May be pulled greater than V2 using external pull-up.", 3 V3 (in) "Voltage Input 3. Select from 2.5V, 1.8V, 1.5V or ADJ. See Table 1 for details.", 4 V1 (in) "Voltage Input 1. Select from 5V or 3.3V. See Table 1 for details. The greater of (V1, V2) is also VCC for the device. Bypass this pin to ground with a 0.1uF (or greater) capacitor.", 5 CRT (in) "Reset Delay Time Programming Pin. Attach an external capacitor (CRT) to GND to set a reset delay time of 4.6ms/nF. Leaving the pin open generates a minimum delay of approximately 50us. A 47nF capacitor will generate a 216ms (See Datasheet)", 6 ~{RST} (oc) "Reset Logic Output. Active low with weak pull-up to V2 (LTC2901-1/LTC2901-3) or active pull-up to V2 (LTC2901-2/LTC2901-4). Pulls low when any voltage input is below the reset threshold and held low for the programmed delay (See Datasheet)", 7 TOL (in) "LTC2901-3/LTC2901-4 Digital Input for Supply Tolerance Selection (5% or 10%). A logic low selects 5% thresholds; a logic high selects 10% thresholds.", 8 WDI (in) "Watchdog Input. A logic input whose rising or falling edge must occur on this pin (while R\S\T\ is high) within the selected watchdog time-out period, prohibiting a high-to-low transition on the W\D\O\ pin (LTC2901-1/ (See Datasheet)", 9 CWT (in) "Watchdog Time-Out Programming Pin. Attach a capacitor (CWT) between CWT and GND to set a watchdog time-out period of 20ms/nF. Leaving the pin open generates a minimum time-out of approximately 200us. A 47nF capacitor will (See Datasheet)", 10 GND (power) "Ground.", 11 VPG (in) "Voltage Threshold Combination Select Input. Connect to an external 1% resistive divider between VREF and GND to select 1 of 16 combinations of preset and/ or +/-adjustable voltage thresholds (see Table 1). Do not add (See Datasheet)", 12 VREF (out) "Buffered Reference Voltage. A 1.210V nominal reference used for programming voltage (VPG) and for the offset of negative adjustable applications. The buffered reference can source and sink up to 1mA. The reference can drive (See Datasheet)", 13 V4 (in) "Voltage Input 4. Select from 1.8V, 1.5V, ADJ or - ADJ. See Table 1 for details.", 14 V2 (in) "Voltage Input 2. Select from 3.3V, 3V or 2.5V. See Table 1 for details. The greater of (V1, V2) is also VCC for device. Bypass this pin to ground with a 0.1uF (or greater) capacitor. All logic outputs (COMP1, COMP2, COMP3, (See Datasheet)", 15 COMP4 (out) "Comparator Output 4. Nondelayed, active high logic output with weak pull-up to V2. Pulls high when V4 is above reset threshold. May be pulled greater than V2 using external pull-up.", 16 COMP2 (out) "Comparator Output 2. Nondelayed, active high logic output with weak pull-up to V2. Pulls high when V2 is above reset threshold. May be pulled greater than V2 using external pull-up."

## LTC2901-3CGN#PBF
designator U?
Programmable Quad Supply Monitor with Adjustable Reset and Watchdog Timers, 16-pin SOP (GN-16), 0 to 70 degC, Pb-Free; Manufacturer: Linear Technology; PartNumber: LTC2901-3CGN#PBF; Number of Supplies(#): 4; DatasheetVersion: Rev. B; PackageVersion: Rev. B, 03/2012; PackageReference: GN-16; PackageDescription: 16-Pin Plastic SSOP, Body 4.9 x 3.9 mm, Pitch 0.635 mm; Supplier 1: Digi-Key; Supplier Part Number 1: LTC2901-3CGN#PBF-ND; Supplier 2: Newark; Supplier Part Number 2: 56M6588; RoHS: TRUE; Mounting Technology: Surface Mount; ComponentLink1Description: Manufacturer URL; ComponentLink1URL: http://www.linear.com/; ComponentLink2Description: Datasheet; ComponentLink2URL: http://cds.linear.com/docs/en/datasheet/2901fb.pdf; ComponentLink3Description: Package Specification; ComponentLink3URL: http://cds.linear.com/docs/en/packaging/05081641_B_GN16.pdf
footprint LT-GN-16_N (SOP, 16-Leads, Body 5x4mm, Pitch 0.635mm, IPC Medium Density)
footprint LT-GN-16_L (SOP, 16-Leads, Body 5x4mm, Pitch 0.635mm, IPC High Density)
footprint LT-GN-16_M (SOP, 16-Leads, Body 5x4mm, Pitch 0.635mm, IPC Low Density)
pins: 1 COMP3 (out) "Comparator Output 3. Nondelayed, active high logic output with weak pull-up to V2. Pulls high when V3 is above reset threshold. May be pulled greater than V2 using external pull-up.", 2 COMP1 (out) "Comparator Output 1. Nondelayed, active high logic output with weak pull-up to V2. Pulls high when V1 is above reset threshold. May be pulled greater than V2 using external pull-up.", 3 V3 (in) "Voltage Input 3. Select from 2.5V, 1.8V, 1.5V or ADJ. See Table 1 for details.", 4 V1 (in) "Voltage Input 1. Select from 5V or 3.3V. See Table 1 for details. The greater of (V1, V2) is also VCC for the device. Bypass this pin to ground with a 0.1uF (or greater) capacitor.", 5 CRT (in) "Reset Delay Time Programming Pin. Attach an external capacitor (CRT) to GND to set a reset delay time of 4.6ms/nF. Leaving the pin open generates a minimum delay of approximately 50us. A 47nF capacitor will generate a 216ms (See Datasheet)", 6 ~{RST} (oc) "Reset Logic Output. Active low with weak pull-up to V2 (LTC2901-1/LTC2901-3) or active pull-up to V2 (LTC2901-2/LTC2901-4). Pulls low when any voltage input is below the reset threshold and held low for the programmed delay (See Datasheet)", 7 TOL (in) "LTC2901-3/LTC2901-4 Digital Input for Supply Tolerance Selection (5% or 10%). A logic low selects 5% thresholds; a logic high selects 10% thresholds.", 8 WDI (in) "Watchdog Input. A logic input whose rising or falling edge must occur on this pin (while R\S\T\ is high) within the selected watchdog time-out period, prohibiting a high-to-low transition on the W\D\O\ pin (LTC2901-1/ (See Datasheet)", 9 CWT (in) "Watchdog Time-Out Programming Pin. Attach a capacitor (CWT) between CWT and GND to set a watchdog time-out period of 20ms/nF. Leaving the pin open generates a minimum time-out of approximately 200us. A 47nF capacitor will (See Datasheet)", 10 GND (power) "Ground.", 11 VPG (in) "Voltage Threshold Combination Select Input. Connect to an external 1% resistive divider between VREF and GND to select 1 of 16 combinations of preset and/ or +/-adjustable voltage thresholds (see Table 1). Do not add (See Datasheet)", 12 VREF (out) "Buffered Reference Voltage. A 1.210V nominal reference used for programming voltage (VPG) and for the offset of negative adjustable applications. The buffered reference can source and sink up to 1mA. The reference can drive (See Datasheet)", 13 V4 (in) "Voltage Input 4. Select from 1.8V, 1.5V, ADJ or - ADJ. See Table 1 for details.", 14 V2 (in) "Voltage Input 2. Select from 3.3V, 3V or 2.5V. See Table 1 for details. The greater of (V1, V2) is also VCC for device. Bypass this pin to ground with a 0.1uF (or greater) capacitor. All logic outputs (COMP1, COMP2, COMP3, (See Datasheet)", 15 COMP4 (out) "Comparator Output 4. Nondelayed, active high logic output with weak pull-up to V2. Pulls high when V4 is above reset threshold. May be pulled greater than V2 using external pull-up.", 16 COMP2 (out) "Comparator Output 2. Nondelayed, active high logic output with weak pull-up to V2. Pulls high when V2 is above reset threshold. May be pulled greater than V2 using external pull-up."

## LTC2901-3CGN#TR
designator U?
Programmable Quad Supply Monitor with Adjustable Reset and Watchdog Timers, 16-pin SOP (GN-16), 0 to 70 degC, Tape and Reel; Manufacturer: Linear Technology; PartNumber: LTC2901-3CGN#TR; Number of Supplies(#): 4; DatasheetVersion: Rev. B; PackageVersion: Rev. B, 03/2012; PackageReference: GN-16; PackageDescription: 16-Pin Plastic SSOP, Body 4.9 x 3.9 mm, Pitch 0.635 mm; Supplier 1: Digi-Key; Supplier Part Number 1: LTC2901-3CGN#TR-ND; Packing: Tape and Reel; RoHS: FALSE; Mounting Technology: Surface Mount; ComponentLink1Description: Manufacturer URL; ComponentLink1URL: http://www.linear.com/; ComponentLink2Description: Datasheet; ComponentLink2URL: http://cds.linear.com/docs/en/datasheet/2901fb.pdf; ComponentLink3Description: Package Specification; ComponentLink3URL: http://cds.linear.com/docs/en/packaging/05081641_B_GN16.pdf
footprint LT-GN-16_N (SOP, 16-Leads, Body 5x4mm, Pitch 0.635mm, IPC Medium Density)
footprint LT-GN-16_L (SOP, 16-Leads, Body 5x4mm, Pitch 0.635mm, IPC High Density)
footprint LT-GN-16_M (SOP, 16-Leads, Body 5x4mm, Pitch 0.635mm, IPC Low Density)
pins: 1 COMP3 (out) "Comparator Output 3. Nondelayed, active high logic output with weak pull-up to V2. Pulls high when V3 is above reset threshold. May be pulled greater than V2 using external pull-up.", 2 COMP1 (out) "Comparator Output 1. Nondelayed, active high logic output with weak pull-up to V2. Pulls high when V1 is above reset threshold. May be pulled greater than V2 using external pull-up.", 3 V3 (in) "Voltage Input 3. Select from 2.5V, 1.8V, 1.5V or ADJ. See Table 1 for details.", 4 V1 (in) "Voltage Input 1. Select from 5V or 3.3V. See Table 1 for details. The greater of (V1, V2) is also VCC for the device. Bypass this pin to ground with a 0.1uF (or greater) capacitor.", 5 CRT (in) "Reset Delay Time Programming Pin. Attach an external capacitor (CRT) to GND to set a reset delay time of 4.6ms/nF. Leaving the pin open generates a minimum delay of approximately 50us. A 47nF capacitor will generate a 216ms (See Datasheet)", 6 ~{RST} (oc) "Reset Logic Output. Active low with weak pull-up to V2 (LTC2901-1/LTC2901-3) or active pull-up to V2 (LTC2901-2/LTC2901-4). Pulls low when any voltage input is below the reset threshold and held low for the programmed delay (See Datasheet)", 7 TOL (in) "LTC2901-3/LTC2901-4 Digital Input for Supply Tolerance Selection (5% or 10%). A logic low selects 5% thresholds; a logic high selects 10% thresholds.", 8 WDI (in) "Watchdog Input. A logic input whose rising or falling edge must occur on this pin (while R\S\T\ is high) within the selected watchdog time-out period, prohibiting a high-to-low transition on the W\D\O\ pin (LTC2901-1/ (See Datasheet)", 9 CWT (in) "Watchdog Time-Out Programming Pin. Attach a capacitor (CWT) between CWT and GND to set a watchdog time-out period of 20ms/nF. Leaving the pin open generates a minimum time-out of approximately 200us. A 47nF capacitor will (See Datasheet)", 10 GND (power) "Ground.", 11 VPG (in) "Voltage Threshold Combination Select Input. Connect to an external 1% resistive divider between VREF and GND to select 1 of 16 combinations of preset and/ or +/-adjustable voltage thresholds (see Table 1). Do not add (See Datasheet)", 12 VREF (out) "Buffered Reference Voltage. A 1.210V nominal reference used for programming voltage (VPG) and for the offset of negative adjustable applications. The buffered reference can source and sink up to 1mA. The reference can drive (See Datasheet)", 13 V4 (in) "Voltage Input 4. Select from 1.8V, 1.5V, ADJ or - ADJ. See Table 1 for details.", 14 V2 (in) "Voltage Input 2. Select from 3.3V, 3V or 2.5V. See Table 1 for details. The greater of (V1, V2) is also VCC for device. Bypass this pin to ground with a 0.1uF (or greater) capacitor. All logic outputs (COMP1, COMP2, COMP3, (See Datasheet)", 15 COMP4 (out) "Comparator Output 4. Nondelayed, active high logic output with weak pull-up to V2. Pulls high when V4 is above reset threshold. May be pulled greater than V2 using external pull-up.", 16 COMP2 (out) "Comparator Output 2. Nondelayed, active high logic output with weak pull-up to V2. Pulls high when V2 is above reset threshold. May be pulled greater than V2 using external pull-up."

## LTC2901-3CGN#TRPBF
designator U?
Programmable Quad Supply Monitor with Adjustable Reset and Watchdog Timers, 16-pin SOP (GN-16), 0 to 70 degC, Pb-Free, Tape and Reel; Manufacturer: Linear Technology; PartNumber: LTC2901-3CGN#TRPBF; Number of Supplies(#): 4; DatasheetVersion: Rev. B; PackageVersion: Rev. B, 03/2012; PackageReference: GN-16; PackageDescription: 16-Pin Plastic SSOP, Body 4.9 x 3.9 mm, Pitch 0.635 mm; Supplier 1: Digi-Key; Supplier Part Number 1: LTC2901-3CGN#TRPBF-ND; Packing: Tape and Reel; RoHS: TRUE; Mounting Technology: Surface Mount; ComponentLink1Description: Manufacturer URL; ComponentLink1URL: http://www.linear.com/; ComponentLink2Description: Datasheet; ComponentLink2URL: http://cds.linear.com/docs/en/datasheet/2901fb.pdf; ComponentLink3Description: Package Specification; ComponentLink3URL: http://cds.linear.com/docs/en/packaging/05081641_B_GN16.pdf
footprint LT-GN-16_N (SOP, 16-Leads, Body 5x4mm, Pitch 0.635mm, IPC Medium Density)
footprint LT-GN-16_L (SOP, 16-Leads, Body 5x4mm, Pitch 0.635mm, IPC High Density)
footprint LT-GN-16_M (SOP, 16-Leads, Body 5x4mm, Pitch 0.635mm, IPC Low Density)
pins: 1 COMP3 (out) "Comparator Output 3. Nondelayed, active high logic output with weak pull-up to V2. Pulls high when V3 is above reset threshold. May be pulled greater than V2 using external pull-up.", 2 COMP1 (out) "Comparator Output 1. Nondelayed, active high logic output with weak pull-up to V2. Pulls high when V1 is above reset threshold. May be pulled greater than V2 using external pull-up.", 3 V3 (in) "Voltage Input 3. Select from 2.5V, 1.8V, 1.5V or ADJ. See Table 1 for details.", 4 V1 (in) "Voltage Input 1. Select from 5V or 3.3V. See Table 1 for details. The greater of (V1, V2) is also VCC for the device. Bypass this pin to ground with a 0.1uF (or greater) capacitor.", 5 CRT (in) "Reset Delay Time Programming Pin. Attach an external capacitor (CRT) to GND to set a reset delay time of 4.6ms/nF. Leaving the pin open generates a minimum delay of approximately 50us. A 47nF capacitor will generate a 216ms (See Datasheet)", 6 ~{RST} (oc) "Reset Logic Output. Active low with weak pull-up to V2 (LTC2901-1/LTC2901-3) or active pull-up to V2 (LTC2901-2/LTC2901-4). Pulls low when any voltage input is below the reset threshold and held low for the programmed delay (See Datasheet)", 7 TOL (in) "LTC2901-3/LTC2901-4 Digital Input for Supply Tolerance Selection (5% or 10%). A logic low selects 5% thresholds; a logic high selects 10% thresholds.", 8 WDI (in) "Watchdog Input. A logic input whose rising or falling edge must occur on this pin (while R\S\T\ is high) within the selected watchdog time-out period, prohibiting a high-to-low transition on the W\D\O\ pin (LTC2901-1/ (See Datasheet)", 9 CWT (in) "Watchdog Time-Out Programming Pin. Attach a capacitor (CWT) between CWT and GND to set a watchdog time-out period of 20ms/nF. Leaving the pin open generates a minimum time-out of approximately 200us. A 47nF capacitor will (See Datasheet)", 10 GND (power) "Ground.", 11 VPG (in) "Voltage Threshold Combination Select Input. Connect to an external 1% resistive divider between VREF and GND to select 1 of 16 combinations of preset and/ or +/-adjustable voltage thresholds (see Table 1). Do not add (See Datasheet)", 12 VREF (out) "Buffered Reference Voltage. A 1.210V nominal reference used for programming voltage (VPG) and for the offset of negative adjustable applications. The buffered reference can source and sink up to 1mA. The reference can drive (See Datasheet)", 13 V4 (in) "Voltage Input 4. Select from 1.8V, 1.5V, ADJ or - ADJ. See Table 1 for details.", 14 V2 (in) "Voltage Input 2. Select from 3.3V, 3V or 2.5V. See Table 1 for details. The greater of (V1, V2) is also VCC for device. Bypass this pin to ground with a 0.1uF (or greater) capacitor. All logic outputs (COMP1, COMP2, COMP3, (See Datasheet)", 15 COMP4 (out) "Comparator Output 4. Nondelayed, active high logic output with weak pull-up to V2. Pulls high when V4 is above reset threshold. May be pulled greater than V2 using external pull-up.", 16 COMP2 (out) "Comparator Output 2. Nondelayed, active high logic output with weak pull-up to V2. Pulls high when V2 is above reset threshold. May be pulled greater than V2 using external pull-up."